# EAGLE library part TC7660SEOA (library TC7660SEOA)
DC-TO-DC VOLTAGE CONVERTER Source: Datasheet <http://componentsearchengine.com/Datasheets/1/TC7660SEOA.pdf>
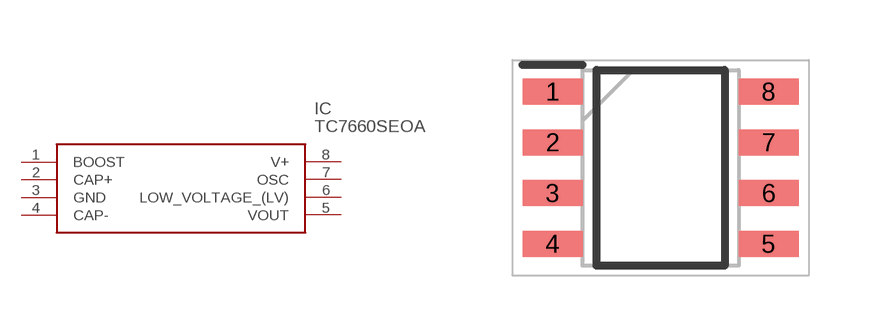
[diagram p0: symbol with the pads of SOIC127P600X175-8N; footprint SOIC127P600X175-8N]

Designator prefix IC

## TC7660SEOA (Arrow_Part_Number: TC7660SEOA; Arrow_Price-Stock: https://www.arrow.com/en/products/tc7660seoa/microchip-technology; Description: DC-TO-DC VOLTAGE CONVERTER; Height: 1.75mm; Manufacturer_Name: Microchip; Manufacturer_Part_Number: TC7660SEOA; Mouser_Part_Number: 579-TC7660SEOA; Mouser_Price-Stock: https://www.mouser.co.uk/ProductDetail/Microchip-Technology/TC7660SEOA?qs=cQYLKLPzRJl3hJI5k2EAHg%3D%3D)  [SOIC127P600X175-8N]
1  BOOST
2  CAP+
3  GND
4  CAP-
5  VOUT
6  LOW_VOLTAGE_(LV)
7  OSC
8  V+

## Footprint SOIC127P600X175-8N (pad centres in mm)
8-Pin SOIC 3.90 mm Body
smd 1.5 x 0.65: 1 -2.7,1.905; 2 -2.7,0.635; 3 -2.7,-0.635; 4 -2.7,-1.905; 5 2.7,-1.905; 6 2.7,-0.635; 7 2.7,0.635; 8 2.7,1.905